# EAGLE library part 12-12-12 (library 50w-modular-psu)
Gate Drive Transformer Turns rate: 12/12/12
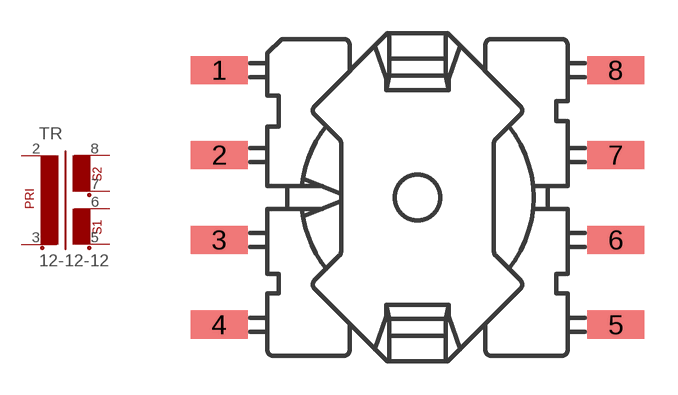
[diagram p0: symbol with the pads of RM5LS; footprint RM5LS]

Designator prefix TR

## 12-12-12  [RM5LS]
2  1  pas
3  2  pas
5  3  pas
6  4  pas
7  5  pas
8  6  pas

## Footprint RM5LS (pad centres in mm)
TRANSFORMER
smd 2.54 x 1.27: 1 -8.89,5.715; 2 -8.89,1.905; 3 -8.89,-1.905; 4 -8.89,-5.715; 5 8.89,-5.715; 6 8.89,-1.905; 7 8.89,1.905; 8 8.89,5.715